# EAGLE library part W12864 (library w12864)
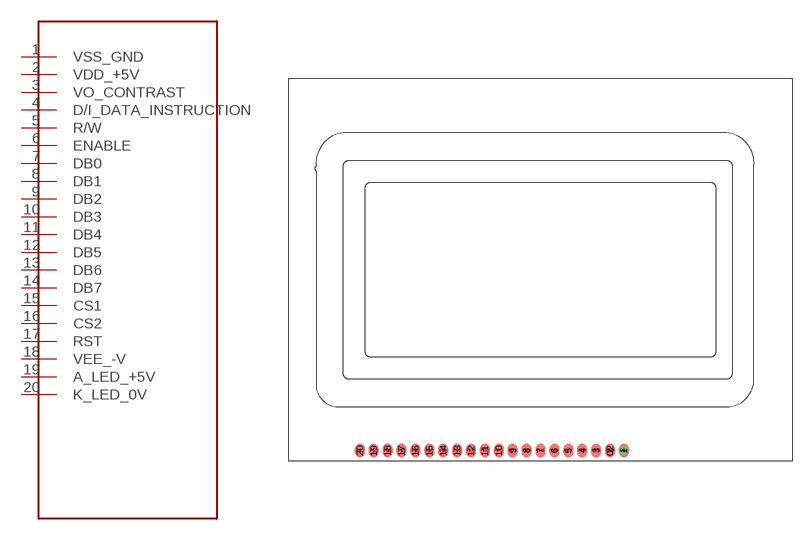
[diagram p0: symbol with the pads of W12864; footprint W12864]

Designator prefix -

## W12864  [W12864]
1  VSS_GND
2  VDD_+5V
3  VO_CONTRAST
4  D/I_DATA_INSTRUCTION
5  R/W
6  ENABLE
7  DB0
8  DB1
9  DB2
10  DB3
11  DB4
12  DB5
13  DB6
14  DB7
15  CS1
16  CS2
17  RST
18  VEE_-V
19  A_LED_+5V
20  K_LED_0V

## Footprint W12864 (pad centres in mm)
smd 1.8 x 2.5: 1 15.24,-33.02; 2 12.7,-33.02; 02 12.7,-33.02; 3 10.16,-33.02; 4 7.62,-33.02; 5 5.08,-33.02; 6 2.54,-33.02; 7 0,-33.02; 8 -2.54,-33.02; 9 -5.08,-33.02; 10 -7.62,-33.02; 11 -10.16,-33.02; 12 -12.7,-33.02; 13 -15.24,-33.02; 14 -17.78,-33.02; 15 -20.32,-33.02; 16 -22.86,-33.02; 17 -25.4,-33.02; 18 -27.94,-33.02; 19 -30.48,-33.02; 20 -33.02,-33.02
drill 0.8 square: P$1 15.24,-33.02; P$2 -33.02,-33.02; P$3 -30.48,-33.02; P$4 -27.94,-33.02; P$5 -25.4,-33.02; P$6 -22.86,-33.02; P$7 -20.32,-33.02; P$8 -17.78,-33.02; P$9 -15.24,-33.02; P$10 -12.7,-33.02; P$11 -10.16,-33.02; P$12 -7.62,-33.02; P$13 -5.08,-33.02; P$14 -2.54,-33.02; P$15 0,-33.02; P$16 2.54,-33.02; P$17 5.08,-33.02; P$18 7.62,-33.02; P$19 10.16,-33.02; P$20 12.7,-33.02